# EAGLE library part ROTAR_ENCODER (library breakout_boards)
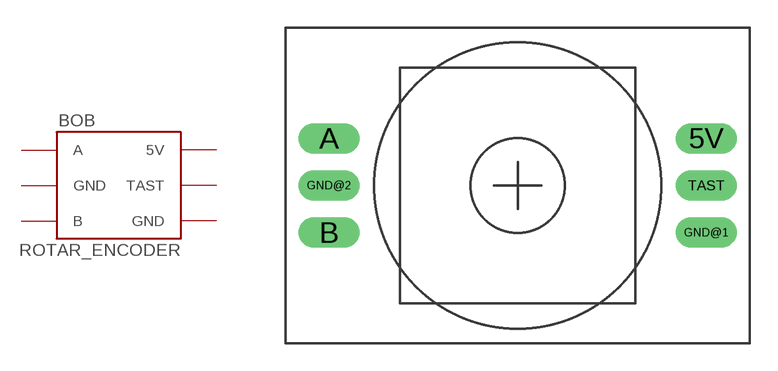
[diagram p0: symbol with the pads of ROTARY; footprint ROTARY]

Designator prefix BOB

## ROTAR_ENCODER  [ROTARY]
5V  5V  pwr
A  A  out
B  B  out
GND@1  GND  pwr
GND@2  GND  pwr
TAST  TAST  out

## Footprint ROTARY (pad centres in mm)
drill 1.1 long: 5V 10.16,2.54; A -10.16,2.54; B -10.16,-2.54; GND@1 10.16,-2.54; GND@2 -10.16,0; TAST 10.16,0